# Altium footprint library Micrel Power Mgt Switching Circuit.PcbLib: 1 footprints
Each footprint in its own frame and in the unit in brackets; x right, y up, seen from the top. Pads: shape width x height; smd on the part's side, far side on the other; paste and mask are expansions set on the pad; w line width, h text height; cw(c..) or ccw(c..) is an arc to the next point about the centre after c.
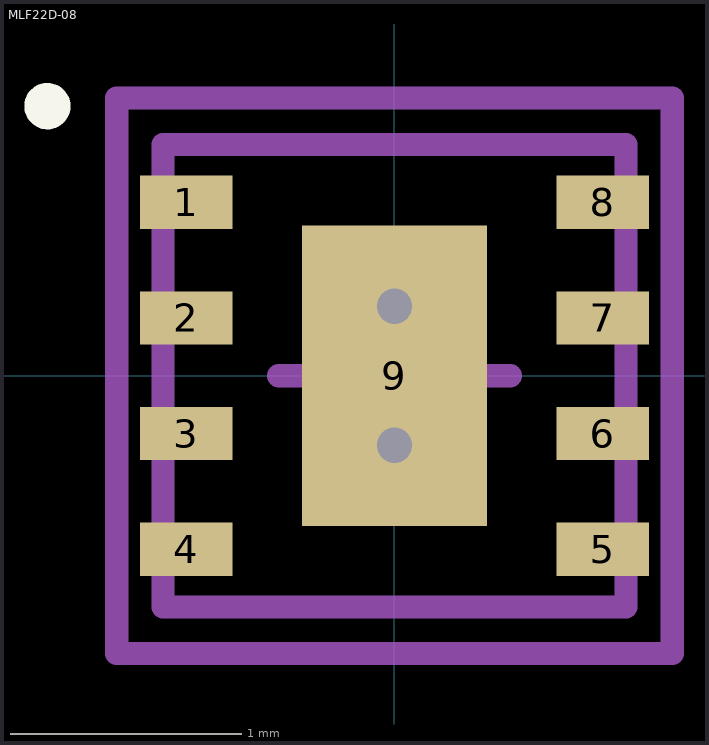
[diagram p0: the footprint, top view; thin cyan lines are the x and y axes]

## MLF22D-08 [mm] "SON 9-Leads, Body 2.0x2.0mm (typ), Pitch 0.50mm"
height 0.9
pads (9):
  rect 0.4x0.23 smd: 1(-0.9,0.75) 2(-0.9,0.25) 3(-0.9,-0.25) 4(-0.9,-0.75) 5(0.9,-0.75) 6(0.9,-0.25) 7(0.9,0.25) 8(0.9,0.75)
  rect 0.8x1.3 smd: 9(0,0)
via 0,0.3 diameter 0.3 hole 0.152
via 0,-0.3 diameter 0.3 hole 0.152
Top Overlay:
  circle w0.1: c-1.5,1.165 r0.05
Mechanical 13:
  lines w0.1: -1,-1 1,-1 1,1 -1,1 -1,-1
Mechanical 15:
  lines w0.1: -0.5,0 0.5,0 ; 0,-0.5 0,0.5 ; -1.2,-1.2 1.2,-1.2 1.2,1.2 -1.2,1.2 -1.2,-1.2
3D body: height 0.9, standoff 0, extent -0.975,-0.975 0.975,0.975